# EAGLE library part AS8500 (library austriamicrosystems)
Universal multi pupose data aquisition system Source: AS8500_rev1_2_22-12-06.pdf
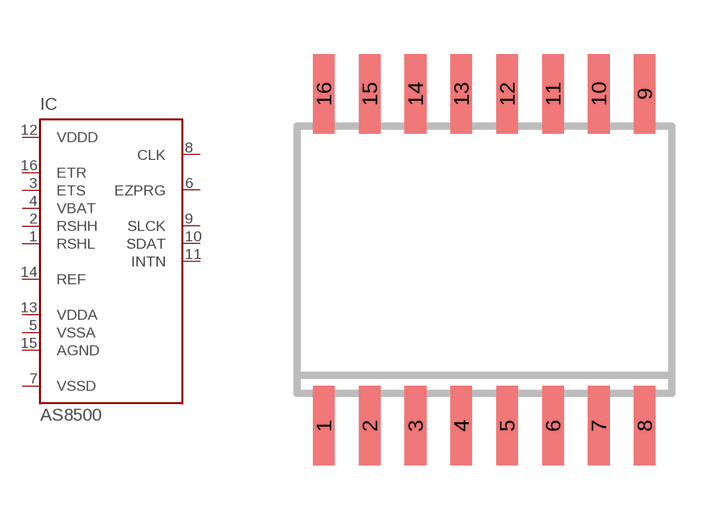
[diagram p1: symbol with the pads of SO16W; footprint SO16W]

Designator prefix IC

## AS8500 (MPN: AS8500ASOT; OC_FARNELL: unknown; OC_NEWARK: 59P4095)  [SO16W]
1  RSHL  in
2  RSHH  in
3  ETS
4  VBAT
5  VSSA  pwr
6  EZPRG  in
7  VSSD  pwr
8  CLK  in
9  SLCK  in
10  SDAT
11  INTN
12  VDDD  pwr
13  VDDA  pwr
14  REF  pas
15  AGND  pwr
16  ETR

## Footprint SO16W (pad centres in mm)
SMALL OUTLINE INTEGRATED CIRCUIT wide body 7.5 mm/JEDEC MS-013AA
smd 0.6 x 2.2: 1 -4.445,-4.6; 2 -3.175,-4.6; 3 -1.905,-4.6; 4 -0.635,-4.6; 5 0.635,-4.6; 6 1.905,-4.6; 7 3.175,-4.6; 8 4.445,-4.6; 9 4.445,4.6; 10 3.175,4.6; 11 1.905,4.6; 12 0.635,4.6; 13 -0.635,4.6; 14 -1.905,4.6; 15 -3.175,4.6; 16 -4.445,4.6